# EAGLE library part XC9572XL-PC44 (library XC9500XLneu)
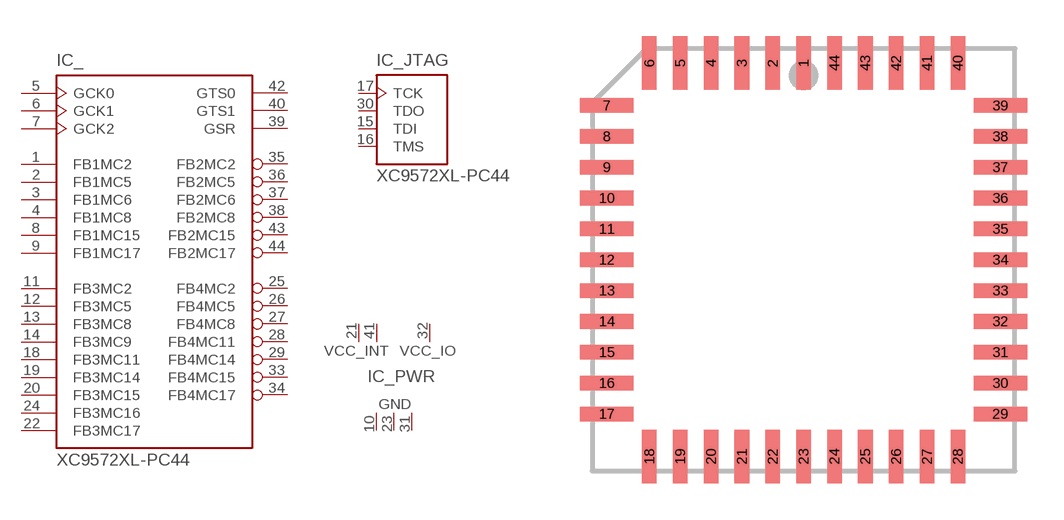
[diagram p4: symbol with the pads of PC44; footprint PC44]

Designator prefix IC; gates _=XC9572XL-PC44 _JTAG=JTAG _PWR=XC9572XL_PWR

## XC9572XL-PC44  [PC44]
1  _:FB1MC2
2  _:FB1MC5
3  _:FB1MC6
4  _:FB1MC8
5  _:GCK0  in
6  _:GCK1  in
7  _:GCK2  in
8  _:FB1MC15
9  _:FB1MC17
10  _PWR:GND  pwr
11  _:FB3MC2
12  _:FB3MC5
13  _:FB3MC8
14  _:FB3MC9
15  _JTAG:TDI  in
16  _JTAG:TMS  in
17  _JTAG:TCK  in
18  _:FB3MC11
19  _:FB3MC14
20  _:FB3MC15
21  _PWR:VCC_INT  pwr
22  _:FB3MC17
23  _PWR:GND  pwr
24  _:FB3MC16
25  _:FB4MC2
26  _:FB4MC5
27  _:FB4MC8
28  _:FB4MC11
29  _:FB4MC14
30  _JTAG:TDO  out
31  _PWR:GND  pwr
32  _PWR:VCC_IO  pwr
33  _:FB4MC15
34  _:FB4MC17
35  _:FB2MC2
36  _:FB2MC5
37  _:FB2MC6
38  _:FB2MC8
39  _:GSR  in
40  _:GTS1  in
41  _PWR:VCC_INT  pwr
42  _:GTS0  in
43  _:FB2MC15
44  _:FB2MC17

## Footprint PC44 (pad centres in mm)
smd 0.6 x 2.2: 1 0,8.1; 2 -1.27,8.1; 3 -2.54,8.1; 4 -3.81,8.1; 5 -5.08,8.1; 6 -6.35,8.1; 18 -6.35,-8.1; 19 -5.08,-8.1; 20 -3.81,-8.1; 21 -2.54,-8.1; 22 -1.27,-8.1; 23 0,-8.1; 24 1.27,-8.1; 25 2.54,-8.1; 26 3.81,-8.1; 27 5.08,-8.1; 28 6.35,-8.1; 40 6.35,8.1; 41 5.08,8.1; 42 3.81,8.1; 43 2.54,8.1; 44 1.27,8.1
smd 2.2 x 0.6: 7 -8.1,6.35; 8 -8.1,5.08; 9 -8.1,3.81; 10 -8.1,2.54; 11 -8.1,1.27; 12 -8.1,0; 13 -8.1,-1.27; 14 -8.1,-2.54; 15 -8.1,-3.81; 16 -8.1,-5.08; 17 -8.1,-6.35; 29 8.1,-6.35; 30 8.1,-5.08; 31 8.1,-3.81; 32 8.1,-2.54; 33 8.1,-1.27; 34 8.1,0; 35 8.1,1.27; 36 8.1,2.54; 37 8.1,3.81; 38 8.1,5.08; 39 8.1,6.35